# EAGLE library part MIC61300YML-TR (library LDO)
IC REG LINEAR POS ADJ 3A 10MLF Manufacturer's datasheet <http://ww1.microchip.com/downloads/en/DeviceDoc/mic61300.pdf>
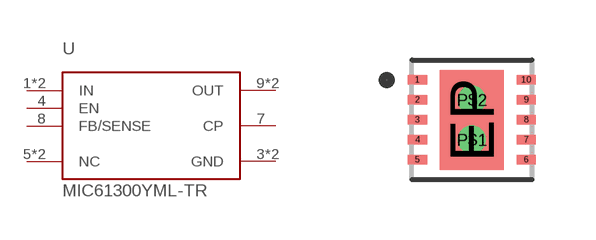
[diagram p7: symbol with the pads of MIC61300YML-TR; footprint MIC61300YML-TR]

Designator prefix U

## MIC61300YML-TR (CREATED_BY: PCBLayout.com; DIGIKEY_PN: 576-3767-1-ND; MANUFACTURER: Microchip Technology; MPN: MIC61300YML-TR; PACKAGE: 10-MLF)  [MIC61300YML-TR]
1  IN  in
2  IN  in
3  GND  pwr
4  EN
5  NC  pas
6  NC  pas
7  CP  out
8  FB/SENSE
9  OUT  out
10  OUT  out
EP  GND  pwr

## Footprint MIC61300YML-TR (pad centres in mm)
smd 0.48 x 0.23: 1 -1.36,1; 2 -1.36,0.5; 3 -1.36,0; 4 -1.36,-0.5; 5 -1.36,-1; 6 1.36,-1; 7 1.36,-0.5; 8 1.36,0; 9 1.36,0.5; 10 1.36,1
smd 1.6 x 2.5: EP 0,0
drill 0.2 pad 0.4: P$1 0,-0.5; P$2 0,0.5